# Altium schematic symbol library mt3608_Schlib1.SchLib: 30 symbols
Pins are listed as number, name and electrical type; pins without a type are passive.

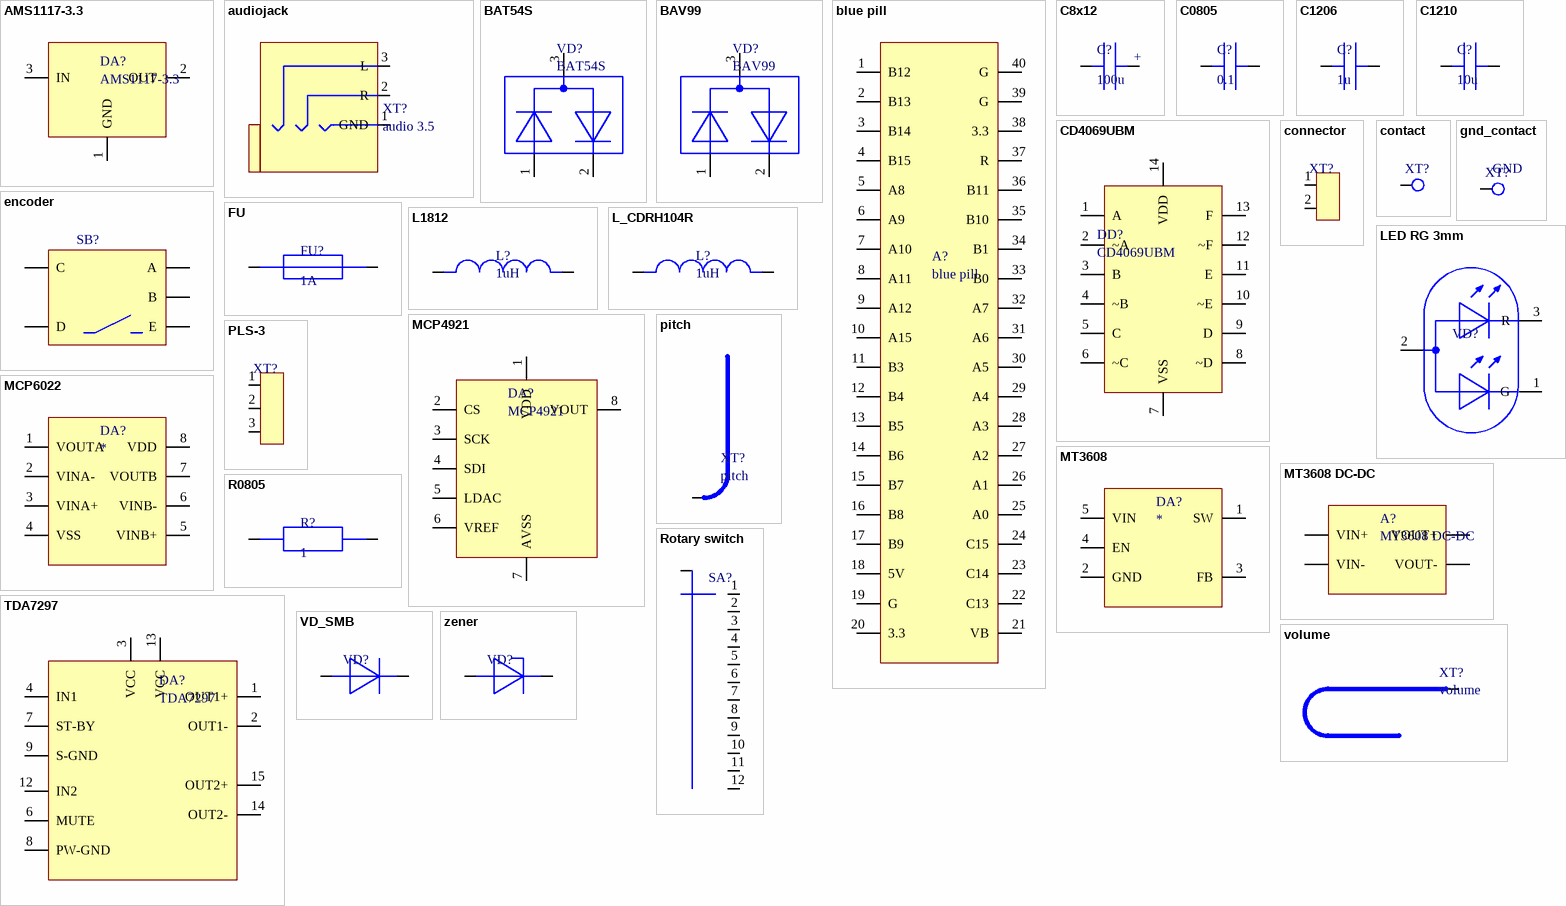
[diagram p0: symbols AMS1117-3.3 to zener]

## AMS1117-3.3
designator DA?
footprint SOT223
pins: 1 GND, 2 OUT, 3 IN

## audiojack
designator XT?, comment audio 3.5
footprint ST-214N (audio jack)
pins: 1 GND, 2 R, 3 L

## BAT54S
designator VD?
pins: 1, 2, 3

## BAV99
designator VD?
pins: 1, 2, 3

## blue pill
designator A?
footprint blue pill
pins: 1 B12, 2 B13, 3 B14, 4 B15, 5 A8, 6 A9, 7 A10, 8 A11, 9 A12, 10 A15, 11 B3, 12 B4, 13 B5, 14 B6, 15 B7, 16 B8, 17 B9, 18 5V, 19 G, 20 3.3, 21 VB, 22 C13, 23 C14, 24 C15, 25 A0, 26 A1, 27 A2, 28 A3, 29 A4, 30 A5, 31 A6, 32 A7, 33 B0, 34 B1, 35 B10, 36 B11, 37 R, 38 3.3, 39 G, 40 G

## C8x12
designator C?, comment 100u
footprint C8x12
pins: 1, 2
text: +

## C0805
designator C?, comment 0.1
footprint C0805
pins: 1, 2

## C1206
designator C?, comment 1u
footprint C1206
pins: 1, 2

## C1210
designator C?, comment 10u
footprint C1206
pins: 1, 2

## CD4069UBM
designator DD?
footprint CD4069UBM
pins: 1 A, 2 ~A, 3 B, 4 ~B, 5 C, 6 ~C, 7 VSS, 8 ~D, 9 D, 10 ~E, 11 E, 12 ~F, 13 F, 14 VDD

## connector
designator XT?  (value not drawn)
footprint B2P (connector)
pins: 1, 2

## contact
designator XT?  (value not drawn)
footprint contact
pins: 1

## encoder
designator SB?  (value not drawn)
footprint EC11
pins: A, B, C, D, E

## FU
designator FU?, comment 1A
footprint VP4
pins: 1, 2

## gnd_contact
designator XT?  (value not drawn)
source gnd connect
footprint special_contact
pins: 1
text: GND

## L1812
designator L?, comment 1uH
footprint L1812
pins: 1, 2

## L_CDRH104R
designator L?, comment 1uH
footprint L_CDRH104R
pins: 1, 2

## LED RG 3mm
designator VD?
footprint LED RG 3mm
pins: 1 G, 2, 3 R

## MCP4921
designator DA?
footprint SO-8
pins: 1 VDD, 2 CS, 3 SCK, 4 SDI, 5 LDAC, 6 VREF, 7 AVSS, 8 VOUT

## MCP6022
designator DA?
footprint SO-8
pins: 1 VOUTA, 2 VINA-, 3 VINA+, 4 VSS, 5 VINB+, 6 VINB-, 7 VOUTB, 8 VDD

## MT3608
designator DA?
footprint SOT23-6
pins: 1 SW, 2 GND, 3 FB, 4 EN, 5 VIN

## MT3608 DC-DC
designator A?
footprint MT3608
pins: 1 VIN+, 2 VIN-, 3 VOUT+, 4 VOUT-

## pitch
designator XT?
footprint special_contact
pins: 1

## PLS-3
designator XT?  (value not drawn)
footprint PLS-3
pins: 1, 2, 3

## R0805
designator R?, comment 1
footprint R0805
pins: 1, 2

## Rotary switch
designator SA?  (value not drawn)
footprint rotary switch
pins: 0, 1, 2, 3, 4, 5, 6, 7, 8, 9, 10, 11, 12

## TDA7297
designator DA?
footprint TDA7297
pins: 1 OUT1+, 2 OUT1-, 3 VCC, 4 IN1, 6 MUTE, 7 ST-BY, 8 PW-GND, 9 S-GND, 12 IN2, 13 VCC, 14 OUT2-, 15 OUT2+

## VD_SMB
designator VD?
footprint SMB
pins: 1, 2

## volume
designator XT?
footprint special_contact
pins: 1

## zener
designator VD?
footprint SOD523
pins: 1, 2